# EAGLE library part ADP3303 (library analog-devices)
High Accuracy anyCAP 200 mA Low Dropout Linear Regulator
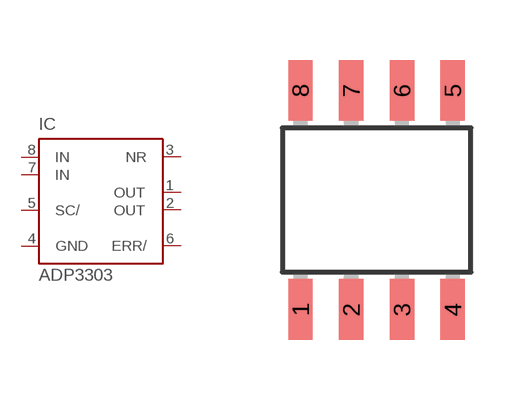
[diagram p1: symbol with the pads of SO-8COOL; footprint SO-8COOL]

Designator prefix IC

## ADP3303  [SO-8COOL]
1  OUT  pas
2  OUT  pas
3  NR  pas
4  GND  pwr
5  SC/  in
6  ERR/  oc
7  IN  in
8  IN  in

## Footprint SO-8COOL (pad centres in mm)
smd 0.61 x 1.524: 1 -1.905,-2.743; 2 -0.635,-2.743; 3 0.635,-2.743; 4 1.905,-2.743; 5 1.905,2.743; 6 0.635,2.743; 7 -0.635,2.743; 8 -1.905,2.743